# EAGLE library part LTC2872 (library platypus)
RS232/RS485 Dual Multiprotocol Transceiver with Integrated Termination Robust pin-configurable transceiver that supports RS232, RS485, and RS422 standards while operating on a single 3V to 5.5V supply.
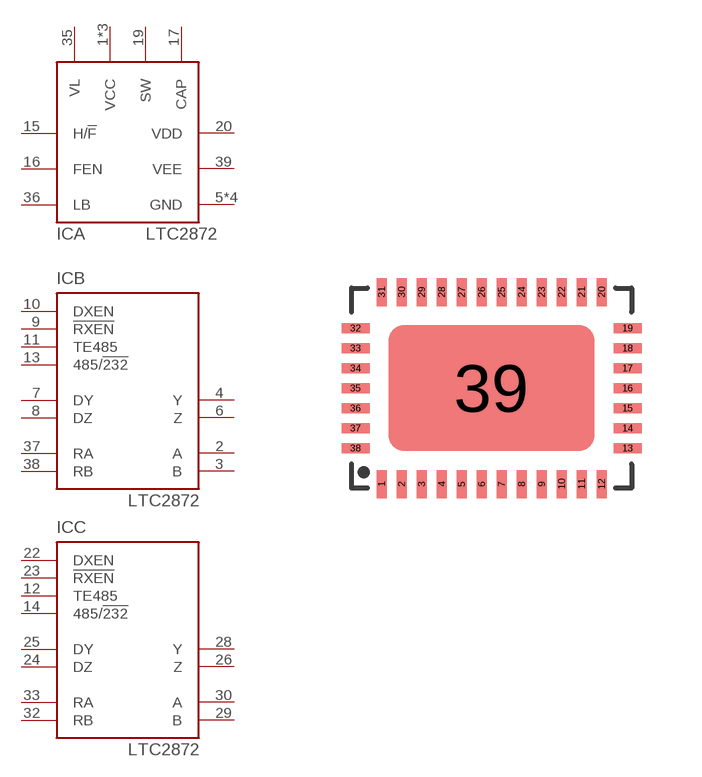
[diagram p2: symbol with the pads of LTC-UHF; footprint LTC-UHF]

Designator prefix IC; gates A=LTC2872_PWR B=LTC2872_XCV C=LTC2872_XCV

## LTC2872 (MF: Linear; MPN: LTC2872)  [LTC-UHF]
1  A:VCC  pwr
2  B:A  in
3  B:B  in
4  B:Y  out
5  A:GND  pwr
6  B:Z  out
7  B:DY  in
8  B:DZ  in
9  B:!RXEN  in
10  B:DXEN  in
11  B:TE485  in
12  C:TE485  in
13  B:485/!232  in
14  C:485/!232  in
15  A:H/!F  in
16  A:FEN  in
17  A:CAP  pas
18  A:GND  pwr
19  A:SW  pas
20  A:VDD  out
21  A:VCC  pwr
22  C:DXEN  in
23  C:!RXEN  in
24  C:DZ  in
25  C:DY  in
26  C:Z  out
27  A:GND  pwr
28  C:Y  out
29  C:B  in
30  C:A  in
31  A:VCC  pwr
32  C:RB  out
33  C:RA  out
34  A:GND  pwr
35  A:VL  pas
36  A:LB  in
37  B:RA  out
38  B:RB  out
39  A:VEE  out

## Footprint LTC-UHF (pad centres in mm)
UHF Package 38-Lead Plastic QFN (5mm × 7mm) (Reference LTC DWG # 05-08-1701 Rev C)
smd 0.25 x 0.7: 1 -2.75,-2.4; 2 -2.25,-2.4; 3 -1.75,-2.4; 4 -1.25,-2.4; 5 -0.75,-2.4; 6 -0.25,-2.4; 7 0.25,-2.4; 8 0.75,-2.4; 9 1.25,-2.4; 10 1.75,-2.4; 11 2.25,-2.4; 12 2.75,-2.4; 20 2.75,2.4; 21 2.25,2.4; 22 1.75,2.4; 23 1.25,2.4; 24 0.75,2.4; 25 0.25,2.4; 26 -0.25,2.4; 27 -0.75,2.4; 28 -1.25,2.4; 29 -1.75,2.4; 30 -2.25,2.4; 31 -2.75,2.4
smd 0.7 x 0.25: 13 3.4,-1.5; 14 3.4,-1; 15 3.4,-0.5; 16 3.4,0; 17 3.4,0.5; 18 3.4,1; 19 3.4,1.5; 32 -3.4,1.5; 33 -3.4,1; 34 -3.4,0.5; 35 -3.4,0; 36 -3.4,-0.5; 37 -3.4,-1; 38 -3.4,-1.5
smd 5.15 x 3.15: 39 0,0